# Altium footprint library Passives-SMD_TANT.PCBLIB: 6 footprints
Each footprint in its own frame and in the unit in brackets; x right, y up, seen from the top. Pads: shape width x height; smd on the part's side, far side on the other; paste and mask are expansions set on the pad; w line width, h text height; cw(c..) or ccw(c..) is an arc to the next point about the centre after c.
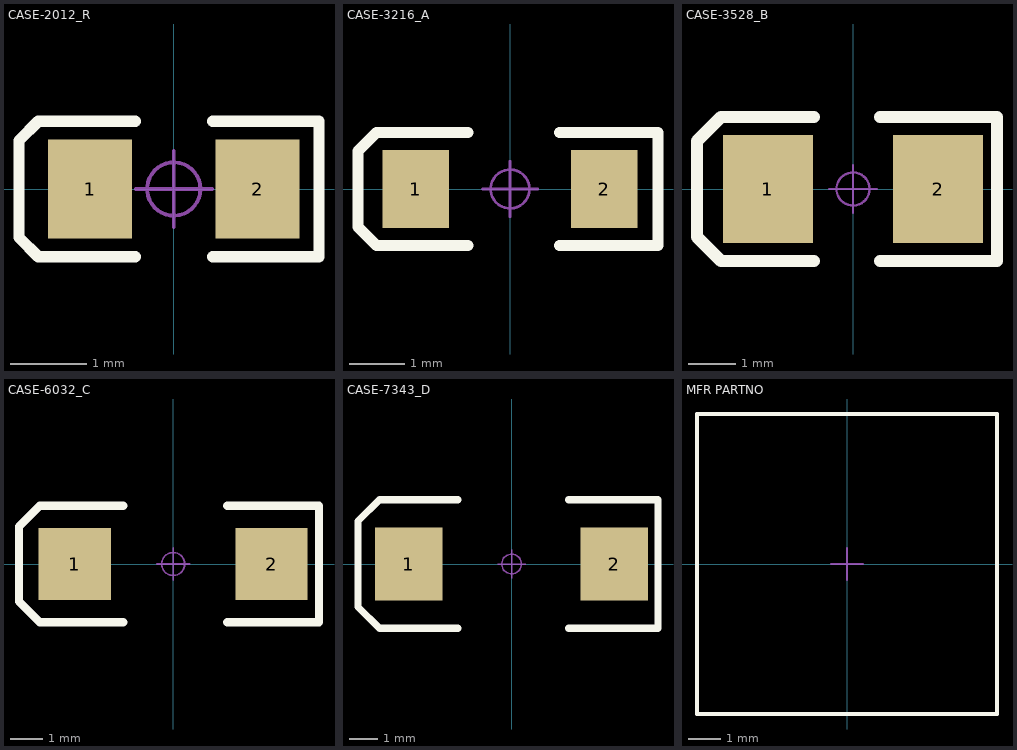
[diagram p0: the footprints below, top view; thin cyan lines are the x and y axes]

## CASE-2012_R [mm]
pads (2):
  rect 1.1x1.3 smd: 1(-1.1,0) 2(1.1,0)
Top Overlay:
  lines w0.15: -0.508,-0.889 -1.778,-0.889 -2.032,-0.635 -2.032,0.254 -2.032,0.635 -1.778,0.889 -0.508,0.889 ; 0.508,-0.889 1.905,-0.889 1.905,0.889 0.508,0.889
Top 中心点:
  circle w0.05: c0,0 r0.35
  lines w0.05: -0.5,0 0.5,0 ; 0,-0.5 0,0.5
3D body "cd_s_2012_.STEP": height 1.24, standoff 0.04, extent -1,-0.6 1,0.6

## CASE-3216_A [mm]
pads (2):
  rect 1.2x1.4 smd: 1(-1.7,0) 2(1.7,0)
Top Overlay:
  lines w0.2: -0.762,-1.016 -2.413,-1.016 -2.743,-0.686 -2.743,0.686 -2.413,1.016 -0.762,1.016 ; 0.889,-1.016 2.667,-1.016 2.667,1.016 0.889,1.016
Top 中心点:
  circle w0.05: c0,0 r0.35
  lines w0.05: -0.5,0 0.5,0 ; 0,-0.5 0,0.5
3D body "cd_a_3216__-2 asm.STEP": height 1.63, standoff 0.03, extent -1.6,-0.8 1.6,0.8

## CASE-3528_B [mil]
pads (2):
  rect 75x90 smd: 1(-70.87,-0.01) 2(70.86,-0.01)
Top Overlay:
  lines w10: -32.51,-60 -110,-60 -130,-40 -130,40 -110,60 -32.51,60 ; 22.49,-60 120,-60 120,60 22.49,60
Top 中心点:
  circle w1.97: c0,0 r13.78
  lines w1.97: -19.68,0 19.68,0 ; 0,-19.68 0,19.68
3D body "cd_b_3528_.STEP": height 75.84, standoff 1, extent -68.91,-55.11 68.91,55.12

## CASE-6032_C [mm]
pads (2):
  rect 2.2x2.2 smd: 1(-3,0) 2(3,0)
Top Overlay:
  lines w0.254: -1.524,-1.778 -4.064,-1.778 -4.699,-1.143 -4.699,1.143 -4.064,1.778 -1.524,1.778 ; 1.651,-1.778 4.445,-1.778 4.445,1.778 1.651,1.778
Top 元件外形:
  circle w0.05: c0,0 r0.35
  lines w0.05: -0.5,0 0.5,0 ; 0,-0.5 0,0.5
3D body "cd_c_6032_.STEP": height 2.53, standoff 0.03, extent -3,-1.6 3,1.6

## CASE-7343_D [mm]
pads (2):
  rect 2.4x2.6 smd: 1(-3.65,0) 2(3.65,0)
Top Overlay:
  lines w0.254: -1.905,-2.286 -4.699,-2.286 -5.461,-1.524 -5.461,1.524 -4.699,2.286 -1.905,2.286 ; 2.032,-2.286 5.207,-2.286 5.207,2.286 2.032,2.286
Top 元件外形:
  circle w0.05: c0,0 r0.35
  lines w0.05: -0.5,0 0.5,0 ; 0,-0.5 0,0.5
3D body "cd_d_7343h_.STEP": height 2.83, standoff 0.03, extent -3.65,-2.15 3.65,2.15

## MFR PARTNO [mm] "记得设置高度"
Top Overlay:
  lines w0.127: -4.7,-4.7 -4.7,4.7 4.7,4.7 4.7,-4.7 -4.7,-4.7
Top 元件外形:
  lines w0.127: -4.7,-4.7 4.7,-4.7 4.7,4.7 -4.7,4.7 -4.7,-4.7
Top 中心点:
  lines w0.051: -0.5,0 0.5,0 ; 0,-0.5 0,0.5